# EAGLE library part ATECC508A-MAHDA-T (library SamacSys_Parts)
Microchip ATECC508A-MAHDA-T 10kb 8-Pin Crypto Authentication IC UDFN Source: Datasheet <http://ww1.microchip.com/downloads/en/DeviceDoc/20005927A.pdf>
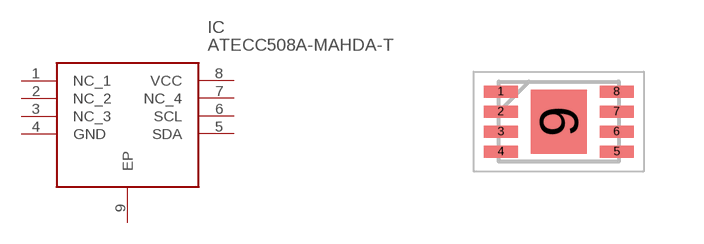
[diagram p14: symbol with the pads of SON50P300X200X60-9N; footprint SON50P300X200X60-9N]

Designator prefix IC

## ATECC508A-MAHDA-T (DESCRIPTION: Microchip ATECC508A-MAHDA-T 10kb 8-Pin Crypto Authentication IC UDFN; HEIGHT: 0.6mm; MANUFACTURER_NAME: Microchip; MANUFACTURER_PART_NUMBER: ATECC508A-MAHDA-T; MOUSER_PART_NUMBER: 556-ATECC508A-MAHDAT; MOUSER_PRICE-STOCK: https://www.mouser.com/Search/Refine.aspx?Keyword=556-ATECC508A-MAHDAT; RS_PART_NUMBER: 1773144P; RS_PRICE-STOCK: http://uk.rs-online.com/web/p/products/1773144P)  [SON50P300X200X60-9N]
1  NC_1
2  NC_2
3  NC_3
4  GND
5  SDA
6  SCL
7  NC_4
8  VCC
9  EP

## Footprint SON50P300X200X60-9N (pad centres in mm)
MAH 8-Lead Ultra Thin Plastic Dual Flat, No Lead Package (Q4B)
smd 0.85 x 0.3: 1 -1.45,0.75; 2 -1.45,0.25; 3 -1.45,-0.25; 4 -1.45,-0.75; 5 1.45,-0.75; 6 1.45,-0.25; 7 1.45,0.25; 8 1.45,0.75
smd 1.4 x 1.6: 9 0,0